# Altium footprint library 7Segment4Digit.PcbLib: 1 footprints
Each footprint in its own frame and in the unit in brackets; x right, y up, seen from the top. Pads: shape width x height; smd on the part's side, far side on the other; paste and mask are expansions set on the pad; w line width, h text height; cw(c..) or ccw(c..) is an arc to the next point about the centre after c.
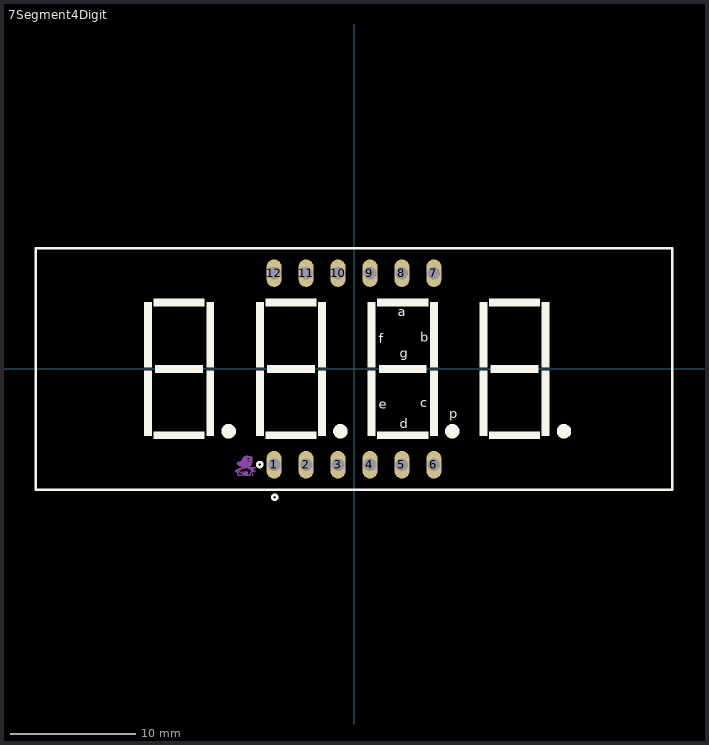
[diagram p0: the footprint, top view; thin cyan lines are the x and y axes]

## 7Segment4Digit [mm] "7SEG 4DIGIT ,5641 0.56\", 12pin Pitch: 2.54mm, 19X50.3mm"
height 7.62
pads (12):
  oval 1.2x2.2 hole 1: 1(-6.35,-7.62) 2(-3.81,-7.62) 3(-1.27,-7.62) 4(1.27,-7.62) 5(3.81,-7.62) 6(6.35,-7.62) 7(6.35,7.62) 8(3.81,7.62) 9(1.27,7.62) 10(-1.27,7.62) 11(-3.81,7.62) 12(-6.35,7.62)
Top Overlay:
  circle w0.635: c-9.97,-4.953 r0.254
  circle w0.635: c16.7,-4.953 r0.254
  circle w0.635: c-1.08,-4.953 r0.254
  circle w0.635: c7.81,-4.953 r0.254
  circle w0.2: c-7.5,-7.6 r0.2
  circle w0.2: c-6.3,-10.2 r0.2
  rectangle: -15.812,-0.33 -12.002,0.33
  rectangle: -15.939,-5.588 -11.875,-4.953
  rectangle: -15.939,4.953 -11.875,5.588
  rectangle: -11.748,-5.334 -11.113,-0.127
  rectangle: -11.748,0.127 -11.113,5.334
  rectangle: -16.701,0.127 -16.066,5.334
  rectangle: -16.701,-5.334 -16.066,-0.127
  rectangle: 9.969,-5.334 10.604,-0.127
  rectangle: 9.969,0.127 10.604,5.334
  rectangle: 14.922,0.127 15.557,5.334
  rectangle: 14.922,-5.334 15.557,-0.127
  rectangle: 10.731,4.953 14.795,5.588
  rectangle: 10.731,-5.588 14.795,-4.953
  rectangle: 10.858,-0.33 14.668,0.33
  rectangle: -7.811,-5.334 -7.176,-0.127
  rectangle: -7.811,0.127 -7.176,5.334
  rectangle: -2.858,0.127 -2.223,5.334
  rectangle: -2.858,-5.334 -2.223,-0.127
  rectangle: -7.049,4.953 -2.985,5.588
  rectangle: -7.049,-5.588 -2.985,-4.953
  rectangle: 1.968,-0.33 5.778,0.33
  rectangle: 1.841,-5.588 5.905,-4.953
  rectangle: 1.841,4.953 5.905,5.588
  rectangle: 6.032,-5.334 6.667,-0.127
  rectangle: 6.032,0.127 6.667,5.334
  rectangle: 1.079,0.127 1.714,5.334
  rectangle: 1.079,-5.334 1.714,-0.127
  rectangle: -6.922,-0.33 -3.112,0.33
  lines w0.2: -25.3,-9.6 25.3,-9.6 25.3,9.6 -25.3,9.6 -25.3,-9.6
  text "g" at 3.619,0.889 h0.76
  text "p" at 7.556,-3.937 h0.76
  text "b" at 5.27,2.159 h0.76
  text "e" at 1.968,-3.175 h0.76
  text "c" at 5.27,-3.048 h0.76
  text "d" at 3.619,-4.699 h0.76
  text "f" at 1.968,2.032 h0.76
  text "a" at 3.492,4.191 h0.76
Mechanical 16:
  drawing of 8 lines, arcs and shapes, not listed
3D body "User Library-C-564 (7 segment 4 digit LED display).step": height 8, standoff -6.2, extent -25.2,-9.5 25.2,9.5